# EAGLE library part MAX634CSA (library maxim)
SWITCHING REGULATOR
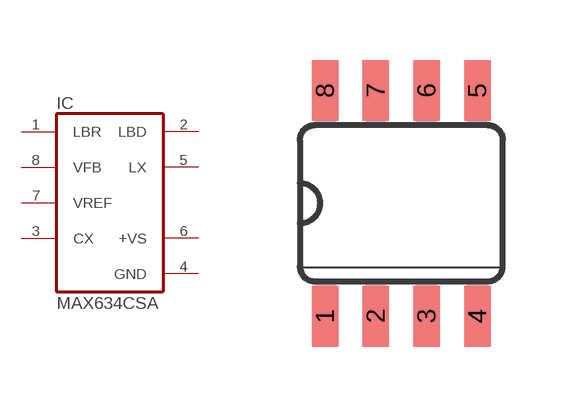
[diagram p168: symbol with the pads of SO08; footprint SO08]

Designator prefix IC

## MAX634CSA (MPN: MAX634CSA+; OC_FARNELL: 1673203; OC_NEWARK: 68K4925)  [SO08]
1  LBR  in
2  LBD  out
3  CX  pas
4  GND  pwr
5  LX  out
6  +VS  pwr
7  VREF  in
8  VFB  in

## Footprint SO08 (pad centres in mm)
Small Outline Package SOIC 150 mil
smd 0.66 x 1.524: 1 -1.905,-2.819; 2 -0.635,-2.819; 3 0.635,-2.819; 4 1.905,-2.819; 5 1.905,2.819; 6 0.635,2.819; 7 -0.635,2.819; 8 -1.905,2.819